# Altium footprint library 6.25uStabilizer.PcbLib: 1 footprints
Each footprint in its own frame and in the unit in brackets; x right, y up, seen from the top. Pads: shape width x height; smd on the part's side, far side on the other; paste and mask are expansions set on the pad; w line width, h text height; cw(c..) or ccw(c..) is an arc to the next point about the centre after c.
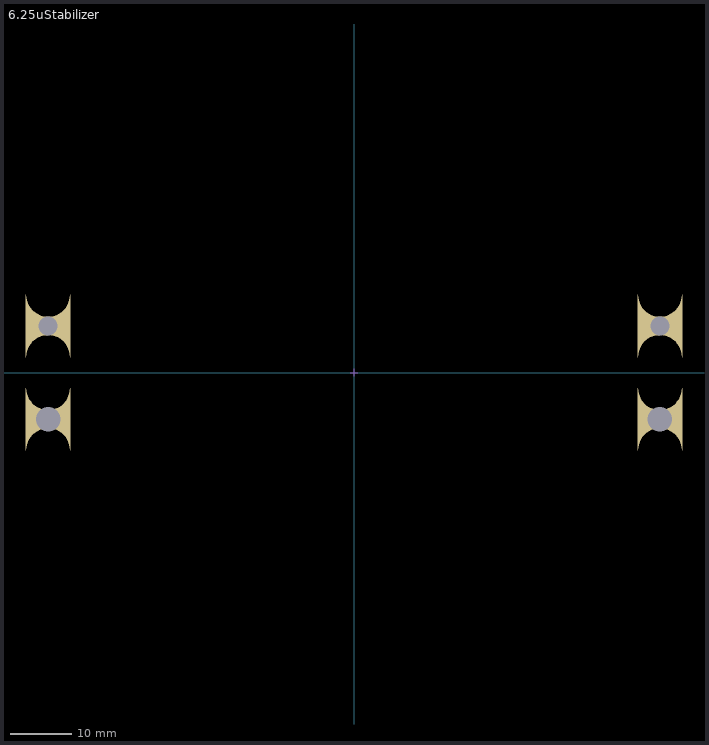
[diagram p0: the footprint, top view; thin cyan lines are the x and y axes]

## 6.25uStabilizer [mm]
pads (4):
  oval 0x3.05 hole 4 unplated: 0(-50,-7.62) 0(50,-7.62)
  oval 0x3.05 hole 3.05 unplated: 0(-50,7.62) 0(50,7.62)
Top Courtyard:
  lines w0.05: -0.635,0 0.635,0 ; 0,-0.635 0,0.635